# Altium footprint library Lesson_06_2.PcbLib: 2 footprints
Each footprint in its own frame and in the unit in brackets; x right, y up, seen from the top. Pads: shape width x height; smd on the part's side, far side on the other; paste and mask are expansions set on the pad; w line width, h text height; cw(c..) or ccw(c..) is an arc to the next point about the centre after c.
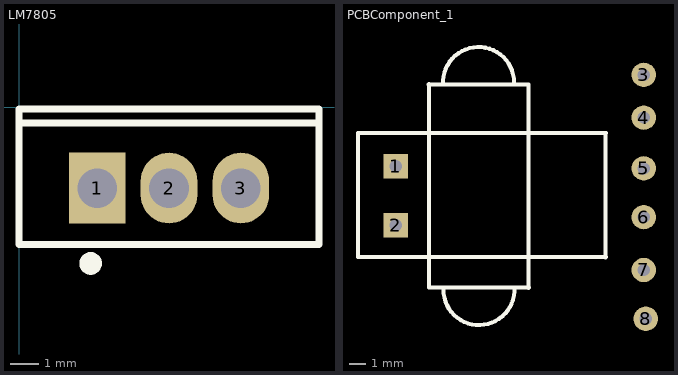
[diagram p0: the footprints below, top view; thin cyan lines are the x and y axes]

## LM7805 [mm]
pads (3):
  rect 2x2.5 hole 1.4: 1(2.761,-2.851)
  oval 2x2.5 hole 1.4: 2(5.301,-2.851) 3(7.841,-2.851)
Top Overlay:
  lines w0.254: 0.001,-0.551 10.601,-0.551 ; 0,-4.85 0,-0.057 0,-0.052 10.602,-0.052 10.602,-4.85 0,-4.85
  lines w0.4: 2.532,-5.315 ccw(c2.534,-5.515) 2.535,-5.315
Mechanical 15:
  lines w0.003: 6.063,-2.693 6.063,-2.693

## PCBComponent_1 [mil]
pads (8):
  rect 60x60 hole 30: 1(-800,-420) 2(-800,-565)
  round 60 hole 30: 3(-190,-195) 4(-190,-300) 5(-190,-425) 6(-190,-545) 7(-190,-675) 8(-185,-795)
Top Overlay:
  lines w10: -719,-219 -474,-219 -474,-719 ; -718,-218 -718,-718 -473,-718 ; -683.86,-218.99 cw(c-596.5,-214) -509,-214 ; -683,-723 ccw(c-595.5,-723) -508.14,-718.01 ; -284,-644 -284,-339 ; -283,-643 -893,-643 -893,-338 -283,-338